# Altium integrated library Analog Devices Power Management Multi-Output Regulators.IntLib: 30 symbols (part 1 of 3)
Pins are listed as number, name and electrical type; pins without a type are passive.

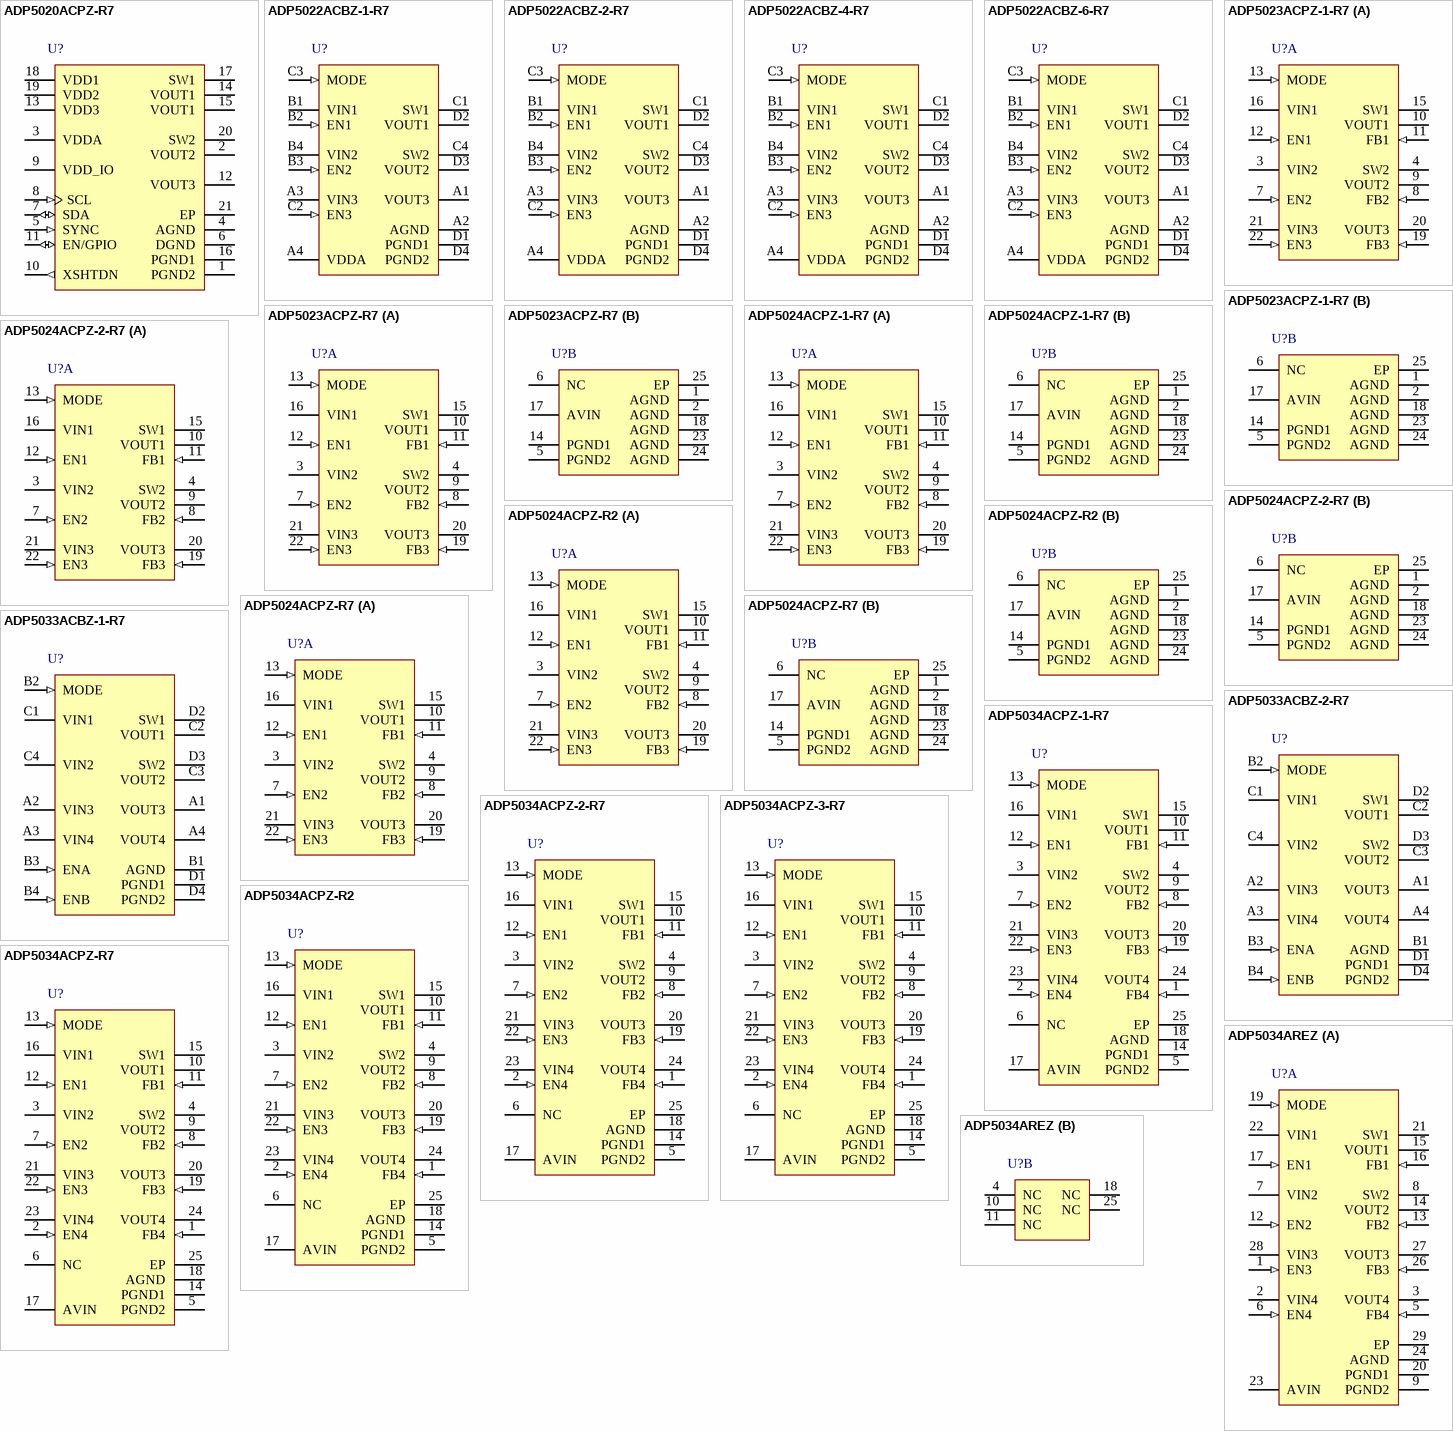
[diagram p0: symbols ADP5020ACPZ-R7 to ADP5034AREZ]

## ADP5020ACPZ-R7
designator U?
Power Management Unit for Imaging Module, 2.4 to 5.5 V Vin, 1.8 to 3.3 V Vout, Industrial, 20-pin QFN (CP-20-4), Reel; Manufacturer: Analog Devices; PartNumber: ADP5020ACPZ-R7; Interface: I2C; Output Current (mA): 150; Number of Outputs: 3; Vin (max) (V): 5.5; Vin (min) (V): 2.4; DatasheetVersion: Rev. 0; PackageVersion: 012508-B; PackageReference: CP-20-4; PackageDescription: 20-Pin Lead Frame Chip Scale Package, Body 4 x 4 mm, Pitch 0.5 mm; Supplier 1: Digi-Key; Supplier Part Number 1: ADP5020ACPZ-R7TR-ND; Supplier 2: Digi-Key; Supplier Part Number 2: ADP5020ACPZ-R7CT-ND; Supplier 3: Digi-Key; Supplier Part Number 3: ADP5020ACPZ-R7DKR-ND; Supplier 4: Farnell; Supplier Part Number 4: 1827316; Supplier 5: Newark; Supplier Part Number 5: 11R0936; Supplier 6: Mouser; Supplier Part Number 6: 584-ADP5020ACPZ-R7; Packing: Reel; Mounting Technology: Surface Mount; Code_JEDEC: MO-220-VGGD-1; ComponentLink1Description: Manufacturer URL; ComponentLink1URL: http://www.analog.com/en/index.html; ComponentLink2Description: Datasheet; ComponentLink2URL: http://www.analog.com/static/imported-files/data_sheets/ADP5020.pdf; ComponentLink3Description: Package Specification; ComponentLink3URL: http://www.analog.com/static/imported-files/packages/PKG_PDF/LFCSP(CP)/CP_20_4.pdf; ComponentLink4Description: URL Link1; ComponentLink4URL: Product URL:http://www.analog.com/en/ADP5020/productSearch.html
footprint ADI-CP-20-4_N (QFN, 20-Leads, Body 4x4mm, Pitch 0.5mm, Thermal Pad 2.5x2.5mm, IPC Medium Density)
footprint ADI-CP-20-4_L (QFN, 20-Leads, Body 4x4mm, Pitch 0.5mm, Thermal Pad 2.5x2.5mm, IPC High Density)
footprint ADI-CP-20-4_M (QFN, 20-Leads, Body 4x4mm, Pitch 0.5mm, Thermal Pad 2.5x2.5mm, IPC Low Density)
pins: 1 PGND2 (power) "Power Ground Buck 2.", 2 VOUT2 "Feedback Buck 2.", 3 VDDA (power) "Supply Voltage Internal Analog Circuit.", 4 AGND (power) "Analog Ground.", 5 SYNC (in) "Frequency Synchronization. Connect to an external 19.2 MHz or 9.6 MHz clock signal to synchronize the internal oscillator.", 6 DGND (power) "Digital Ground.", 7 SDA (io) "I2C Data.", 8 SCL (in) "I2C Clock.", 9 VDD_IO (power) "Supply Voltage for Internal Logic Inputs/Outputs.", 10 XSHTDN (out) "Shutdown Output, Active Low.", 11 EN/GPIO (io) "After power-on reset, this pin is defined as enable (EN). To enable active high, the I2C command can program this pin to be an output (GPIO). A weak pull-down resistor is enabled when the pin operates as EN.", 12 VOUT3 (power) "Regulated Output Voltage from LDO.", 13 VDD3 (power) "Supply Voltage LDO.", 14 VOUT1 "Feedback/Driver Buck 1 Output.", 15 VOUT1 "Feedback/Driver Buck 1 Output.", 16 PGND1 (power) "Power Ground Buck 1.", 17 SW1 (power) "Switch Pin Buck 1.", 18 VDD1 (power) "Supply Voltage Buck 1.", 19 VDD2 (power) "Supply Voltage Buck 2.", 20 SW2 (power) "Switch Pin Buck 2.", 21 EP (power) "Exposed pad should be connected to PGND1 and PGND2."

## ADP5022ACBZ-1-R7
designator U?
Dual 3 MHz, 600 mA Buck Regulator with 150 mA LDO, 2.4 to 5.5 V Vin, 1.5; 1.8; 3.3 V Vout, Industrial, 16-pin BGA (CB-16-7), Reel; Manufacturer: Analog Devices; PartNumber: ADP5022ACBZ-1-R7; Interface: GPIO; Output Current (mA): 150; Number of Outputs: 3; Vin (max) (V): 5.5; Vin (min) (V): 2.4; DatasheetVersion: Rev. C; PackageVersion: 013009-B, 06/2009; PackageReference: CB-16-7; PackageDescription: 16-Ball Wafer Level Chip Scale Package, Body 2.08 x 2.08 mm, Pitch 0.5 mm; Supplier 1: Digi-Key; Supplier Part Number 1: ADP5022ACBZ-1-R7TR-ND; Supplier 2: Digi-Key; Supplier Part Number 2: ADP5022ACBZ-1-R7CT-ND; Supplier 3: Digi-Key; Supplier Part Number 3: ADP5022ACBZ-1-R7DKR-ND; Supplier 4: Farnell; Supplier Part Number 4: 1827317; Supplier 5: Mouser; Supplier Part Number 5: 584-ADP5022ACBZ-1-R7; Packing: Reel; Vout Preset (V): 1.5; 1.8; 3.3; Mounting Technology: Surface Mount; ComponentLink1Description: Manufacturer URL; ComponentLink1URL: http://www.analog.com/en/index.html; ComponentLink2Description: Datasheet; ComponentLink2URL: http://www.analog.com/static/imported-files/data_sheets/ADP5022.pdf; ComponentLink3Description: Package Specification; ComponentLink3URL: http:/www.analog.com/static/imported-files/packages/PKG_PDF/WLCSP(CB)/CB_16_7.pdf; ComponentLink4Description: URL Link1; ComponentLink4URL: Product URL:http://www.analog.com/en/ADP5022/productSearch.html
footprint ADI-CB-16-7 (BGA, 16-Balls, Body 2.08x2.08mm, Pitch 0.5mm)
pins: A1 VOUT3 (power) "LDO Output Voltage and Sensing Input.", A2 AGND (power) "Analog Ground.", A3 VIN3 (power) "LDO Input Supply (VIN3 =< VIN1 = VIN2 = VDDA).", A4 VDDA (power) "Supply Input for the Housekeeping Block and UVLO Sensing.", B1 VIN1 (power) "Buck1 Input Supply (VIN1 = VIN2 = VDDA).", B2 EN1 (in) "Buck1 Activation. Set EN1 = high: turn on Buck1. Set EN1 = low: turn off Buck1.", B3 EN2 (in) "Buck2 Activation. Set EN2 = high: turn on Buck2. Set EN2 = low: turn off Buck2.", B4 VIN2 (power) "Buck2 Input Supply (VIN2 = VIN1 = VDDA).", C1 SW1 (power) "Buck1 Switching Node.", C2 EN3 (in) "LDO Activation. Set EN3 = high: turn on LDO. EN3 = low: turn off LDO.", C3 MODE (in) "Buck1/Buck2 Operating Mode: MODE = high: forced PWM operation. MODE = low: auto PWM/PSM operation.", C4 SW2 (power) "Buck2 Switching Node.", D1 PGND1 (power) "Dedicated Power Ground for Buck1.", D2 VOUT1 "Buck1 Output Voltage Sensing Input.", D3 VOUT2 "Buck2 Output Voltage Sensing Input.", D4 PGND2 (power) "Dedicated Power Ground for Buck2."

## ADP5022ACBZ-2-R7
designator U?
Dual 3 MHz, 600 mA Buck Regulator with 150 mA LDO, 2.4 to 5.5 V Vin, 1.2; 1.8; 2.8 V Vout, Industrial, 16-pin BGA (CB-16-7), Reel; Manufacturer: Analog Devices; PartNumber: ADP5022ACBZ-2-R7; Interface: GPIO; Output Current (mA): 150; Number of Outputs: 3; Vin (max) (V): 5.5; Vin (min) (V): 2.4; DatasheetVersion: Rev. C; PackageVersion: 013009-B, 06/2009; PackageReference: CB-16-7; PackageDescription: 16-Ball Wafer Level Chip Scale Package, Body 2.08 x 2.08 mm, Pitch 0.5 mm; Supplier 1: Digi-Key; Supplier Part Number 1: ADP5022ACBZ-2-R7TR-ND; Supplier 2: Digi-Key; Supplier Part Number 2: ADP5022ACBZ-2-R7CT-ND; Supplier 3: Digi-Key; Supplier Part Number 3: ADP5022ACBZ-2-R7DKR-ND; Supplier 4: Mouser; Supplier Part Number 4: 584-ADP5022ACBZ-2-R7; Packing: Reel; Vout Preset (V): 1.2; 1.8; 2.8; Mounting Technology: Surface Mount; ComponentLink1Description: Manufacturer URL; ComponentLink1URL: http://www.analog.com/en/index.html; ComponentLink2Description: Datasheet; ComponentLink2URL: http://www.analog.com/static/imported-files/data_sheets/ADP5022.pdf; ComponentLink3Description: Package Specification; ComponentLink3URL: http:/www.analog.com/static/imported-files/packages/PKG_PDF/WLCSP(CB)/CB_16_7.pdf; ComponentLink4Description: URL Link1; ComponentLink4URL: Product URL:http://www.analog.com/en/ADP5022/productSearch.html
footprint ADI-CB-16-7 (BGA, 16-Balls, Body 2.08x2.08mm, Pitch 0.5mm)
pins: A1 VOUT3 (power) "LDO Output Voltage and Sensing Input.", A2 AGND (power) "Analog Ground.", A3 VIN3 (power) "LDO Input Supply (VIN3 =< VIN1 = VIN2 = VDDA).", A4 VDDA (power) "Supply Input for the Housekeeping Block and UVLO Sensing.", B1 VIN1 (power) "Buck1 Input Supply (VIN1 = VIN2 = VDDA).", B2 EN1 (in) "Buck1 Activation. Set EN1 = high: turn on Buck1. Set EN1 = low: turn off Buck1.", B3 EN2 (in) "Buck2 Activation. Set EN2 = high: turn on Buck2. Set EN2 = low: turn off Buck2.", B4 VIN2 (power) "Buck2 Input Supply (VIN2 = VIN1 = VDDA).", C1 SW1 (power) "Buck1 Switching Node.", C2 EN3 (in) "LDO Activation. Set EN3 = high: turn on LDO. EN3 = low: turn off LDO.", C3 MODE (in) "Buck1/Buck2 Operating Mode: MODE = high: forced PWM operation. MODE = low: auto PWM/PSM operation.", C4 SW2 (power) "Buck2 Switching Node.", D1 PGND1 (power) "Dedicated Power Ground for Buck1.", D2 VOUT1 "Buck1 Output Voltage Sensing Input.", D3 VOUT2 "Buck2 Output Voltage Sensing Input.", D4 PGND2 (power) "Dedicated Power Ground for Buck2."

## ADP5022ACBZ-4-R7
designator U?
Dual 3 MHz, 600 mA Buck Regulator with 150 mA LDO, 2.4 to 5.5 V Vin, 1.8; 3.3 V Vout, Industrial, 16-pin BGA (CB-16-7), Reel; Manufacturer: Analog Devices; PartNumber: ADP5022ACBZ-4-R7; Interface: GPIO; Output Current (mA): 150; Number of Outputs: 3; Vin (max) (V): 5.5; Vin (min) (V): 2.4; Vout Preset (V): 1.8; 3.3; 3.3; DatasheetVersion: Rev. C; PackageVersion: 013009-B, 06/2009; PackageReference: CB-16-7; PackageDescription: 16-Ball Wafer Level Chip Scale Package, Body 2.08 x 2.08 mm, Pitch 0.5 mm; Supplier 1: Digi-Key; Supplier Part Number 1: ADP5022ACBZ-4-R7TR-ND; Supplier 2: Digi-Key; Supplier Part Number 2: ADP5022ACBZ-4-R7CT-ND; Supplier 3: Digi-Key; Supplier Part Number 3: ADP5022ACBZ-4-R7DKR-ND; Supplier 4: Farnell; Supplier Part Number 4: 1827318; Supplier 5: Newark; Supplier Part Number 5: 08R6640; Supplier 6: Mouser; Supplier Part Number 6: 584-ADP5022ACBZ-4-R7; Packing: Reel; Mounting Technology: Surface Mount; ComponentLink1Description: Manufacturer URL; ComponentLink1URL: http://www.analog.com/en/index.html; ComponentLink2Description: Datasheet; ComponentLink2URL: http://www.analog.com/static/imported-files/data_sheets/ADP5022.pdf; ComponentLink3Description: Package Specification; ComponentLink3URL: http:/www.analog.com/static/imported-files/packages/PKG_PDF/WLCSP(CB)/CB_16_7.pdf; ComponentLink4Description: URL Link1; ComponentLink4URL: Product URL:http://www.analog.com/en/ADP5022/productSearch.html
footprint ADI-CB-16-7 (BGA, 16-Balls, Body 2.08x2.08mm, Pitch 0.5mm)
pins: A1 VOUT3 (power) "LDO Output Voltage and Sensing Input.", A2 AGND (power) "Analog Ground.", A3 VIN3 (power) "LDO Input Supply (VIN3 =< VIN1 = VIN2 = VDDA).", A4 VDDA (power) "Supply Input for the Housekeeping Block and UVLO Sensing.", B1 VIN1 (power) "Buck1 Input Supply (VIN1 = VIN2 = VDDA).", B2 EN1 (in) "Buck1 Activation. Set EN1 = high: turn on Buck1. Set EN1 = low: turn off Buck1.", B3 EN2 (in) "Buck2 Activation. Set EN2 = high: turn on Buck2. Set EN2 = low: turn off Buck2.", B4 VIN2 (power) "Buck2 Input Supply (VIN2 = VIN1 = VDDA).", C1 SW1 (power) "Buck1 Switching Node.", C2 EN3 (in) "LDO Activation. Set EN3 = high: turn on LDO. EN3 = low: turn off LDO.", C3 MODE (in) "Buck1/Buck2 Operating Mode: MODE = high: forced PWM operation. MODE = low: auto PWM/PSM operation.", C4 SW2 (power) "Buck2 Switching Node.", D1 PGND1 (power) "Dedicated Power Ground for Buck1.", D2 VOUT1 "Buck1 Output Voltage Sensing Input.", D3 VOUT2 "Buck2 Output Voltage Sensing Input.", D4 PGND2 (power) "Dedicated Power Ground for Buck2."

## ADP5022ACBZ-6-R7
designator U?
Dual 3 MHz, 600 mA Buck Regulator with 150 mA LDO, 2.4 to 5.5 V Vin, 1.0; 1.8; 2.5 V Vout, Industrial, 16-pin BGA (CB-16-7), Reel; Manufacturer: Analog Devices; PartNumber: ADP5022ACBZ-6-R7; Interface: GPIO; Output Current (mA): 150; Number of Outputs: 3; Vin (max) (V): 5.5; Vin (min) (V): 2.4; DatasheetVersion: Rev. C; PackageVersion: 013009-B, 06/2009; PackageReference: CB-16-7; PackageDescription: 16-Ball Wafer Level Chip Scale Package, Body 2.08 x 2.08 mm, Pitch 0.5 mm; Supplier 1: Digi-Key; Supplier Part Number 1: ADP5022ACBZ-6-R7TR-ND; Supplier 2: Digi-Key; Supplier Part Number 2: ADP5022ACBZ-6-R7CT-ND; Supplier 3: Digi-Key; Supplier Part Number 3: ADP5022ACBZ-6-R7DKR-ND; Supplier 4: Mouser; Supplier Part Number 4: 584-ADP5022ACBZ-6-R7; Packing: Reel; Vout Preset (V): 1.0; 1.8; 2.5; Mounting Technology: Surface Mount; ComponentLink1Description: Manufacturer URL; ComponentLink1URL: http://www.analog.com/en/index.html; ComponentLink2Description: Datasheet; ComponentLink2URL: http://www.analog.com/static/imported-files/data_sheets/ADP5022.pdf; ComponentLink3Description: Package Specification; ComponentLink3URL: http:/www.analog.com/static/imported-files/packages/PKG_PDF/WLCSP(CB)/CB_16_7.pdf; ComponentLink4Description: URL Link1; ComponentLink4URL: Product URL:http://www.analog.com/en/ADP5022/productSearch.html
footprint ADI-CB-16-7 (BGA, 16-Balls, Body 2.08x2.08mm, Pitch 0.5mm)
pins: A1 VOUT3 (power) "LDO Output Voltage and Sensing Input.", A2 AGND (power) "Analog Ground.", A3 VIN3 (power) "LDO Input Supply (VIN3 =< VIN1 = VIN2 = VDDA).", A4 VDDA (power) "Supply Input for the Housekeeping Block and UVLO Sensing.", B1 VIN1 (power) "Buck1 Input Supply (VIN1 = VIN2 = VDDA).", B2 EN1 (in) "Buck1 Activation. Set EN1 = high: turn on Buck1. Set EN1 = low: turn off Buck1.", B3 EN2 (in) "Buck2 Activation. Set EN2 = high: turn on Buck2. Set EN2 = low: turn off Buck2.", B4 VIN2 (power) "Buck2 Input Supply (VIN2 = VIN1 = VDDA).", C1 SW1 (power) "Buck1 Switching Node.", C2 EN3 (in) "LDO Activation. Set EN3 = high: turn on LDO. EN3 = low: turn off LDO.", C3 MODE (in) "Buck1/Buck2 Operating Mode: MODE = high: forced PWM operation. MODE = low: auto PWM/PSM operation.", C4 SW2 (power) "Buck2 Switching Node.", D1 PGND1 (power) "Dedicated Power Ground for Buck1.", D2 VOUT1 "Buck1 Output Voltage Sensing Input.", D3 VOUT2 "Buck2 Output Voltage Sensing Input.", D4 PGND2 (power) "Dedicated Power Ground for Buck2."

## ADP5023ACPZ-1-R7
designator U?
Dual 3 MHz, 800 mA Buck Regulator with One 300 mA LDO, 2.3 to 5.5 V Vin, 1.2; 2.8; 3.3 V Vout, Industrial, 24-pin QFN (CP-24-10), Reel; Manufacturer: Analog Devices; PartNumber: ADP5023ACPZ-1-R7; Output Current (mA): 300; Number of Outputs: 3; Vin (max) (V): 5.5; Vin (min) (V): 2.3; DatasheetVersion: Rev. B; PackageVersion: 0; PackageReference: CP-24-10; PackageDescription: 24-Pin Lead Frame Chip Scale Package, Body 4 x 4 mm, Pitch 0.5 mm; Supplier 1: Digi-Key; Supplier Part Number 1: ADP5023ACPZ-1-R7-ND; Supplier 2: Mouser; Supplier Part Number 2: 584-ADP5023ACPZ-1-R7; Packing: Reel; Vout Preset (V): 1.2; 2.8; 3.3; Mounting Technology: Surface Mount; Code_JEDEC: MO-220-WGGD-8; ComponentLink1Description: Manufacturer URL; ComponentLink1URL: http://www.analog.com/en/index.html; ComponentLink2Description: Datasheet; ComponentLink2URL: http://www.analog.com/static/imported-files/data_sheets/ADP5023.pdf; ComponentLink3Description: Package Specification; ComponentLink3URL: http://www.analog.com/static/imported-files/packages/PKG_PDF/LFCSP(CP)/CP_24_10.pdf; ComponentLink4Description: URL Link1; ComponentLink4URL: Product URL:http://www.analog.com/en/ADP5023/productSearch.html
footprint ADI-CP-24-10_N (QFN, 24-Leads, Body 4x4mm, Pitch 0.5mm, Thermal Pad 2.1x2.1mm, IPC Medium Density)
footprint ADI-CP-24-10_L (QFN, 24-Leads, Body 4x4mm, Pitch 0.5mm, Thermal Pad 2.1x2.1mm, IPC High Density)
footprint ADI-CP-24-10_M (QFN, 24-Leads, Body 4x4mm, Pitch 0.5mm, Thermal Pad 2.1x2.1mm, IPC Low Density)
part A pins: 3 VIN2 (power) "BUCK2 Input Supply (2.3 V to 5.5 V). Connect VIN2 to VIN1 and AVIN.", 4 SW2 (power) "BUCK2 Switching Node.", 7 EN2 (in) "BUCK2 Enable Pin. High level turns on this regulator, and low level turns it off.", 8 FB2 (in) "BUCK2 Feedback Input. For device models with adjustable output voltage, connect this pin to the middle of the BUCK2 resistor divider. For device models with fixed output voltage, leave this pin unconnected.", 9 VOUT2 "BUCK2 Output Voltage Sensing Input. Connect VOUT2 to the top of the capacitor on VOUT2.", 10 VOUT1 "BUCK1 Output Voltage Sensing Input. Connect VOUT1 to the top of the capacitor on VOUT1.", 11 FB1 (in) "BUCK1 Feedback Input. For device models with adjustable output voltage, connect this pin to the middle of the BUCK1 resistor divider. For device models with fixed output voltage, connect this pin to the top of the capacitor (See Datasheet)", 12 EN1 (in) "BUCK1 Enable Pin. High level turns on this regulator, and low level turns it off.", 13 MODE (in) "BUCK1/BUCK2 Operating Mode. MODE = high: forced PWM operation. MODE = low: auto PWM/PSM operation.", 15 SW1 (power) "BUCK1 Switching Node", 16 VIN1 (power) "BUCK1 Input Supply (2.3 V to 5.5 V). Connect VIN1 to VIN2 and AVIN.", 19 FB3 (in) "LDO Feedback Input. For device models with adjustable output voltage, connect this pin to the middle of the LDO resistor divider. For device models with fixed output voltage, leave this pin unconnected.", 20 VOUT3 (power) "LDO Output Voltage.", 21 VIN3 (power) "LDO Input Supply (1.7 V to 5.5 V).", 22 EN3 (in) "LDO Enable Pin. High level turns on this regulator, and low level turns it off."
part B pins: 1 AGND (power) "Analog Ground.", 2 AGND (power) "Analog Ground.", 5 PGND2 (power) "Dedicated Power Ground for BUCK2.", 6 NC "No Connect. Leave this pin unconnected.", 14 PGND1 (power) "Dedicated Power Ground for BUCK1.", 17 AVIN (power) "Analog Input Supply (2.3 V to 5.5 V). Connect AVIN to VIN1 and VIN2.", 18 AGND (power) "Analog Ground.", 23 AGND (power) "Analog Ground.", 24 AGND (power) "Analog Ground.", 25 EP (power) "Exposed Pad. It is recommended that the exposed pad be soldered to the ground plane."

## ADP5023ACPZ-R7
designator U?
Dual 3 MHz, 800 mA Buck Regulator with One 300 mA LDO, 2.3 to 5.5 V Vin, Adjustable Vout, Industrial, 24-pin QFN (CP-24-10), Reel; Manufacturer: Analog Devices; PartNumber: ADP5023ACPZ-R7; Output Current (mA): 300; Number of Outputs: 3; Vin (max) (V): 5.5; Vin (min) (V): 2.3; DatasheetVersion: Rev. B; PackageVersion: 0; PackageReference: CP-24-10; PackageDescription: 24-Pin Lead Frame Chip Scale Package, Body 4 x 4 mm, Pitch 0.5 mm; Supplier 1: Digi-Key; Supplier Part Number 1: ADP5023ACPZ-R7TR-ND; Supplier 2: Digi-Key; Supplier Part Number 2: ADP5023ACPZ-R7CT-ND; Supplier 3: Digi-Key; Supplier Part Number 3: ADP5023ACPZ-R7DKR-ND; Supplier 4: Farnell; Supplier Part Number 4: 2061737; Supplier 5: Newark; Supplier Part Number 5: 63T8585; Supplier 6: Newark; Supplier Part Number 6: 65T6081; Supplier 7: Newark; Supplier Part Number 7: 65T4792; Supplier 8: Mouser; Supplier Part Number 8: 584-ADP5023ACPZ-R7; Packing: Reel; Mounting Technology: Surface Mount; Code_JEDEC: MO-220-WGGD-8; ComponentLink1Description: Manufacturer URL; ComponentLink1URL: http://www.analog.com/en/index.html; ComponentLink2Description: Datasheet; ComponentLink2URL: http://www.analog.com/static/imported-files/data_sheets/ADP5023.pdf; ComponentLink3Description: Package Specification; ComponentLink3URL: http://www.analog.com/static/imported-files/packages/PKG_PDF/LFCSP(CP)/CP_24_10.pdf; ComponentLink4Description: URL Link1; ComponentLink4URL: Product URL:http://www.analog.com/en/ADP5023/productSearch.html
footprint ADI-CP-24-10_N (QFN, 24-Leads, Body 4x4mm, Pitch 0.5mm, Thermal Pad 2.1x2.1mm, IPC Medium Density)
footprint ADI-CP-24-10_L (QFN, 24-Leads, Body 4x4mm, Pitch 0.5mm, Thermal Pad 2.1x2.1mm, IPC High Density)
footprint ADI-CP-24-10_M (QFN, 24-Leads, Body 4x4mm, Pitch 0.5mm, Thermal Pad 2.1x2.1mm, IPC Low Density)
part A pins: 3 VIN2 (power) "BUCK2 Input Supply (2.3 V to 5.5 V). Connect VIN2 to VIN1 and AVIN.", 4 SW2 (power) "BUCK2 Switching Node.", 7 EN2 (in) "BUCK2 Enable Pin. High level turns on this regulator, and low level turns it off.", 8 FB2 (in) "BUCK2 Feedback Input. For device models with adjustable output voltage, connect this pin to the middle of the BUCK2 resistor divider. For device models with fixed output voltage, leave this pin unconnected.", 9 VOUT2 "BUCK2 Output Voltage Sensing Input. Connect VOUT2 to the top of the capacitor on VOUT2.", 10 VOUT1 "BUCK1 Output Voltage Sensing Input. Connect VOUT1 to the top of the capacitor on VOUT1.", 11 FB1 (in) "BUCK1 Feedback Input. For device models with adjustable output voltage, connect this pin to the middle of the BUCK1 resistor divider. For device models with fixed output voltage, connect this pin to the top of the capacitor (See Datasheet)", 12 EN1 (in) "BUCK1 Enable Pin. High level turns on this regulator, and low level turns it off.", 13 MODE (in) "BUCK1/BUCK2 Operating Mode. MODE = high: forced PWM operation. MODE = low: auto PWM/PSM operation.", 15 SW1 (power) "BUCK1 Switching Node", 16 VIN1 (power) "BUCK1 Input Supply (2.3 V to 5.5 V). Connect VIN1 to VIN2 and AVIN.", 19 FB3 (in) "LDO Feedback Input. For device models with adjustable output voltage, connect this pin to the middle of the LDO resistor divider. For device models with fixed output voltage, leave this pin unconnected.", 20 VOUT3 (power) "LDO Output Voltage.", 21 VIN3 (power) "LDO Input Supply (1.7 V to 5.5 V).", 22 EN3 (in) "LDO Enable Pin. High level turns on this regulator, and low level turns it off."
part B pins: 1 AGND (power) "Analog Ground.", 2 AGND (power) "Analog Ground.", 5 PGND2 (power) "Dedicated Power Ground for BUCK2.", 6 NC "No Connect. Leave this pin unconnected.", 14 PGND1 (power) "Dedicated Power Ground for BUCK1.", 17 AVIN (power) "Analog Input Supply (2.3 V to 5.5 V). Connect AVIN to VIN1 and VIN2.", 18 AGND (power) "Analog Ground.", 23 AGND (power) "Analog Ground.", 24 AGND (power) "Analog Ground.", 25 EP (power) "Exposed Pad. It is recommended that the exposed pad be soldered to the ground plane."

## ADP5024ACPZ-1-R7
designator U?
Dual 3 MHz, 1200 mA Buck Regulator with One 300 mA LDO, 2.3 to 5.5 V Vin, 1.2; 2.8; 3.3 V Vout, Industrial, 24-pin QFN (CP-24-10), Reel; Manufacturer: Analog Devices; PartNumber: ADP5024ACPZ-1-R7; Output Current (mA): 300; Number of Outputs: 3; Vin (max) (V): 5.5; Vin (min) (V): 2.3; DatasheetVersion: Rev. C; PackageVersion: 0; PackageReference: CP-24-10; PackageDescription: 24-Pin Lead Frame Chip Scale Package, Body 4 x 4 mm, Pitch 0.5 mm; Supplier 1: Digi-Key; Supplier Part Number 1: ADP5024ACPZ-1-R7TR-ND; Supplier 2: Digi-Key; Supplier Part Number 2: ADP5024ACPZ-1-R7CT-ND; Supplier 3: Digi-Key; Supplier Part Number 3: ADP5024ACPZ-1-R7DKR-ND; Supplier 4: Farnell; Supplier Part Number 4: 2213584; Supplier 5: Newark; Supplier Part Number 5: 46W0847; Supplier 6: Newark; Supplier Part Number 6: 45W6188; Supplier 7: Newark; Supplier Part Number 7: 43W5488; Supplier 8: Mouser; Supplier Part Number 8: 584-ADP5024ACPZ-1-R7; Packing: Reel; Vout Preset (V): 1.2; 2.8; 3.3; Mounting Technology: Surface Mount; Code_JEDEC: MO-220-WGGD-8; ComponentLink1Description: Manufacturer URL; ComponentLink1URL: http://www.analog.com/en/index.html; ComponentLink2Description: Datasheet; ComponentLink2URL: http://www.analog.com/static/imported-files/data_sheets/ADP5024.pdf; ComponentLink3Description: Package Specification; ComponentLink3URL: http://www.analog.com/static/imported-files/packages/PKG_PDF/LFCSP(CP)/CP_24_10.pdf; ComponentLink4Description: URL Link1; ComponentLink4URL: Product URL:http://www.analog.com/en/ADP5024/productSearch.html
footprint ADI-CP-24-10_N (QFN, 24-Leads, Body 4x4mm, Pitch 0.5mm, Thermal Pad 2.1x2.1mm, IPC Medium Density)
footprint ADI-CP-24-10_L (QFN, 24-Leads, Body 4x4mm, Pitch 0.5mm, Thermal Pad 2.1x2.1mm, IPC High Density)
footprint ADI-CP-24-10_M (QFN, 24-Leads, Body 4x4mm, Pitch 0.5mm, Thermal Pad 2.1x2.1mm, IPC Low Density)
part A pins: 3 VIN2 (power) "BUCK2 Input Supply (2.3 V to 5.5 V). Connect VIN2 to VIN1 and AVIN.", 4 SW2 (power) "BUCK2 Switching Node.", 7 EN2 (in) "BUCK2 Enable Pin. High level turns on this regulator, and low level turns it off.", 8 FB2 (in) "BUCK2 Feedback Input. For device models with an adjustable output voltage, connect this pin to the middle of the BUCK2 resistor divider. For device models with a fixed output voltage, leave this pin unconnected.", 9 VOUT2 "BUCK2 Output Voltage Sensing Input. Connect VOUT2 to the top of the capacitor on VOUT2.", 10 VOUT1 "BUCK1 Output Voltage Sensing Input. Connect VOUT1 to the top of the capacitor on VOUT1.", 11 FB1 (in) "BUCK1 Feedback Input. For device models with an adjustable output voltage, connect this pin to the middle of the BUCK1 resistor divider. For device models with a fixed output voltage, leave this pin unconnected.", 12 EN1 (in) "BUCK1 Enable Pin. High level turns on this regulator, and low level turns it off.", 13 MODE (in) "BUCK1/BUCK2 Operating Mode. MODE = high for forced PWM operation. MODE = low for automatic PWM/PSM operation.", 15 SW1 (power) "BUCK1 Switching Node.", 16 VIN1 (power) "BUCK1 Input Supply (2.3 V to 5.5 V). Connect VIN1 to VIN2 and AVIN.", 19 FB3 (in) "LDO Feedback Input. For device models with an adjustable output voltage, connect this pin to the middle of the LDO resistor divider. For device models with a fixed output voltage, connect this pin to the top of the capacitor (See Datasheet)", 20 VOUT3 (power) "LDO Output Voltage.", 21 VIN3 (power) "LDO Input Supply (1.7 V to 5.5 V).", 22 EN3 (in) "LDO Enable Pin. High level turns on this regulator, and low level turns it off."
part B pins: 1 AGND (power) "Analog Ground.", 2 AGND (power) "Analog Ground.", 5 PGND2 (power) "Dedicated Power Ground for BUCK2.", 6 NC "No Connect. Leave this pin unconnected.", 14 PGND1 (power) "Dedicated Power Ground for BUCK1.", 17 AVIN (power) "Analog Input Supply (2.3 V to 5.5 V). Connect AVIN to VIN1 and VIN2.", 18 AGND (power) "Analog Ground.", 23 AGND (power) "Analog Ground.", 24 AGND (power) "Analog Ground.", 25 EP (power) "Exposed Pad. It is recommended that the exposed pad be soldered to the ground plane."

## ADP5024ACPZ-2-R7
designator U?
Dual 3 MHz, 1200 mA Buck Regulator with One 300 mA LDO, 2.3 to 5.5 V Vin, Industrial, 24-pin QFN (CP-24-10), Reel; Manufacturer: Analog Devices; PartNumber: ADP5024ACPZ-2-R7; Output Current (mA): 300; Number of Outputs: 3; Vin (max) (V): 5.5; Vin (min) (V): 2.3; DatasheetVersion: Rev. C; PackageVersion: 0; PackageReference: CP-24-10; PackageDescription: 24-Pin Lead Frame Chip Scale Package, Body 4 x 4 mm, Pitch 0.5 mm; Supplier 1: Digi-Key; Supplier Part Number 1: ADP5024ACPZ-2-R7-ND; Supplier 2: Newark; Supplier Part Number 2: 69W7672; Supplier 3: Mouser; Supplier Part Number 3: 584-ADP5024ACPZ-2-R7; Packing: Reel; Mounting Technology: Surface Mount; Code_JEDEC: MO-220-WGGD-8; ComponentLink1Description: Manufacturer URL; ComponentLink1URL: http://www.analog.com/en/index.html; ComponentLink2Description: Datasheet; ComponentLink2URL: http://www.analog.com/static/imported-files/data_sheets/ADP5024.pdf; ComponentLink3Description: Package Specification; ComponentLink3URL: http://www.analog.com/static/imported-files/packages/PKG_PDF/LFCSP(CP)/CP_24_10.pdf; ComponentLink4Description: URL Link1; ComponentLink4URL: Product URL:http://www.analog.com/en/ADP5024/productSearch.html
footprint ADI-CP-24-10_N (QFN, 24-Leads, Body 4x4mm, Pitch 0.5mm, Thermal Pad 2.1x2.1mm, IPC Medium Density)
footprint ADI-CP-24-10_L (QFN, 24-Leads, Body 4x4mm, Pitch 0.5mm, Thermal Pad 2.1x2.1mm, IPC High Density)
footprint ADI-CP-24-10_M (QFN, 24-Leads, Body 4x4mm, Pitch 0.5mm, Thermal Pad 2.1x2.1mm, IPC Low Density)
part A pins: 3 VIN2 (power) "BUCK2 Input Supply (2.3 V to 5.5 V). Connect VIN2 to VIN1 and AVIN.", 4 SW2 (power) "BUCK2 Switching Node.", 7 EN2 (in) "BUCK2 Enable Pin. High level turns on this regulator, and low level turns it off.", 8 FB2 (in) "BUCK2 Feedback Input. For device models with an adjustable output voltage, connect this pin to the middle of the BUCK2 resistor divider. For device models with a fixed output voltage, leave this pin unconnected.", 9 VOUT2 "BUCK2 Output Voltage Sensing Input. Connect VOUT2 to the top of the capacitor on VOUT2.", 10 VOUT1 "BUCK1 Output Voltage Sensing Input. Connect VOUT1 to the top of the capacitor on VOUT1.", 11 FB1 (in) "BUCK1 Feedback Input. For device models with an adjustable output voltage, connect this pin to the middle of the BUCK1 resistor divider. For device models with a fixed output voltage, leave this pin unconnected.", 12 EN1 (in) "BUCK1 Enable Pin. High level turns on this regulator, and low level turns it off.", 13 MODE (in) "BUCK1/BUCK2 Operating Mode. MODE = high for forced PWM operation. MODE = low for automatic PWM/PSM operation.", 15 SW1 (power) "BUCK1 Switching Node.", 16 VIN1 (power) "BUCK1 Input Supply (2.3 V to 5.5 V). Connect VIN1 to VIN2 and AVIN.", 19 FB3 (in) "LDO Feedback Input. For device models with an adjustable output voltage, connect this pin to the middle of the LDO resistor divider. For device models with a fixed output voltage, connect this pin to the top of the capacitor (See Datasheet)", 20 VOUT3 (power) "LDO Output Voltage.", 21 VIN3 (power) "LDO Input Supply (1.7 V to 5.5 V).", 22 EN3 (in) "LDO Enable Pin. High level turns on this regulator, and low level turns it off."
part B pins: 1 AGND (power) "Analog Ground.", 2 AGND (power) "Analog Ground.", 5 PGND2 (power) "Dedicated Power Ground for BUCK2.", 6 NC "No Connect. Leave this pin unconnected.", 14 PGND1 (power) "Dedicated Power Ground for BUCK1.", 17 AVIN (power) "Analog Input Supply (2.3 V to 5.5 V). Connect AVIN to VIN1 and VIN2.", 18 AGND (power) "Analog Ground.", 23 AGND (power) "Analog Ground.", 24 AGND (power) "Analog Ground.", 25 EP (power) "Exposed Pad. It is recommended that the exposed pad be soldered to the ground plane."

## ADP5024ACPZ-R2
designator U?
Dual 3 MHz, 1200 mA Buck Regulator with One 300 mA LDO, 2.3 to 5.5 V Vin, Adjustable Vout, Industrial, 24-pin QFN (CP-24-10), Reel; Manufacturer: Analog Devices; PartNumber: ADP5024ACPZ-R2; Output Current (mA): 300; Number of Outputs: 3; Vin (max) (V): 5.5; Vin (min) (V): 2.3; DatasheetVersion: Rev. C; PackageVersion: 0; PackageReference: CP-24-10; PackageDescription: 24-Pin Lead Frame Chip Scale Package, Body 4 x 4 mm, Pitch 0.5 mm; Supplier 1: Digi-Key; Supplier Part Number 1: ADP5024ACPZ-R2-ND; Supplier 2: Mouser; Supplier Part Number 2: 584-ADP5024ACPZ-R2; Packing: Reel; Mounting Technology: Surface Mount; Code_JEDEC: MO-220-WGGD-8; ComponentLink1Description: Manufacturer URL; ComponentLink1URL: http://www.analog.com/en/index.html; ComponentLink2Description: Datasheet; ComponentLink2URL: http://www.analog.com/static/imported-files/data_sheets/ADP5024.pdf; ComponentLink3Description: Package Specification; ComponentLink3URL: http://www.analog.com/static/imported-files/packages/PKG_PDF/LFCSP(CP)/CP_24_10.pdf; ComponentLink4Description: URL Link1; ComponentLink4URL: Product URL:http://www.analog.com/en/ADP5024/productSearch.html
footprint ADI-CP-24-10_N (QFN, 24-Leads, Body 4x4mm, Pitch 0.5mm, Thermal Pad 2.1x2.1mm, IPC Medium Density)
footprint ADI-CP-24-10_L (QFN, 24-Leads, Body 4x4mm, Pitch 0.5mm, Thermal Pad 2.1x2.1mm, IPC High Density)
footprint ADI-CP-24-10_M (QFN, 24-Leads, Body 4x4mm, Pitch 0.5mm, Thermal Pad 2.1x2.1mm, IPC Low Density)
part A pins: 3 VIN2 (power) "BUCK2 Input Supply (2.3 V to 5.5 V). Connect VIN2 to VIN1 and AVIN.", 4 SW2 (power) "BUCK2 Switching Node.", 7 EN2 (in) "BUCK2 Enable Pin. High level turns on this regulator, and low level turns it off.", 8 FB2 (in) "BUCK2 Feedback Input. For device models with an adjustable output voltage, connect this pin to the middle of the BUCK2 resistor divider. For device models with a fixed output voltage, leave this pin unconnected.", 9 VOUT2 "BUCK2 Output Voltage Sensing Input. Connect VOUT2 to the top of the capacitor on VOUT2.", 10 VOUT1 "BUCK1 Output Voltage Sensing Input. Connect VOUT1 to the top of the capacitor on VOUT1.", 11 FB1 (in) "BUCK1 Feedback Input. For device models with an adjustable output voltage, connect this pin to the middle of the BUCK1 resistor divider. For device models with a fixed output voltage, leave this pin unconnected.", 12 EN1 (in) "BUCK1 Enable Pin. High level turns on this regulator, and low level turns it off.", 13 MODE (in) "BUCK1/BUCK2 Operating Mode. MODE = high for forced PWM operation. MODE = low for automatic PWM/PSM operation.", 15 SW1 (power) "BUCK1 Switching Node.", 16 VIN1 (power) "BUCK1 Input Supply (2.3 V to 5.5 V). Connect VIN1 to VIN2 and AVIN.", 19 FB3 (in) "LDO Feedback Input. For device models with an adjustable output voltage, connect this pin to the middle of the LDO resistor divider. For device models with a fixed output voltage, connect this pin to the top of the capacitor (See Datasheet)", 20 VOUT3 (power) "LDO Output Voltage.", 21 VIN3 (power) "LDO Input Supply (1.7 V to 5.5 V).", 22 EN3 (in) "LDO Enable Pin. High level turns on this regulator, and low level turns it off."
part B pins: 1 AGND (power) "Analog Ground.", 2 AGND (power) "Analog Ground.", 5 PGND2 (power) "Dedicated Power Ground for BUCK2.", 6 NC "No Connect. Leave this pin unconnected.", 14 PGND1 (power) "Dedicated Power Ground for BUCK1.", 17 AVIN (power) "Analog Input Supply (2.3 V to 5.5 V). Connect AVIN to VIN1 and VIN2.", 18 AGND (power) "Analog Ground.", 23 AGND (power) "Analog Ground.", 24 AGND (power) "Analog Ground.", 25 EP (power) "Exposed Pad. It is recommended that the exposed pad be soldered to the ground plane."

## ADP5024ACPZ-R7
designator U?
Dual 3 MHz, 1200 mA Buck Regulator with One 300 mA LDO, 2.3 to 5.5 V Vin, Adjustable Vout, Industrial, 24-pin QFN (CP-24-10), Reel; Manufacturer: Analog Devices; PartNumber: ADP5024ACPZ-R7; Output Current (mA): 300; Number of Outputs: 3; Vin (max) (V): 5.5; Vin (min) (V): 2.3; DatasheetVersion: Rev. C; PackageVersion: 0; PackageReference: CP-24-10; PackageDescription: 24-Pin Lead Frame Chip Scale Package, Body 4 x 4 mm, Pitch 0.5 mm; Supplier 1: Digi-Key; Supplier Part Number 1: ADP5024ACPZ-R7TR-ND; Supplier 2: Digi-Key; Supplier Part Number 2: ADP5024ACPZ-R7CT-ND; Supplier 3: Digi-Key; Supplier Part Number 3: ADP5024ACPZ-R7DKR-ND; Supplier 4: Mouser; Supplier Part Number 4: 584-ADP5024ACPZ-R7; Packing: Reel; Mounting Technology: Surface Mount; Code_JEDEC: MO-220-WGGD-8; ComponentLink1Description: Manufacturer URL; ComponentLink1URL: http://www.analog.com/en/index.html; ComponentLink2Description: Datasheet; ComponentLink2URL: http://www.analog.com/static/imported-files/data_sheets/ADP5024.pdf; ComponentLink3Description: Package Specification; ComponentLink3URL: http://www.analog.com/static/imported-files/packages/PKG_PDF/LFCSP(CP)/CP_24_10.pdf; ComponentLink4Description: URL Link1; ComponentLink4URL: Product URL:http://www.analog.com/en/ADP5024/productSearch.html
footprint ADI-CP-24-10_N (QFN, 24-Leads, Body 4x4mm, Pitch 0.5mm, Thermal Pad 2.1x2.1mm, IPC Medium Density)
footprint ADI-CP-24-10_L (QFN, 24-Leads, Body 4x4mm, Pitch 0.5mm, Thermal Pad 2.1x2.1mm, IPC High Density)
footprint ADI-CP-24-10_M (QFN, 24-Leads, Body 4x4mm, Pitch 0.5mm, Thermal Pad 2.1x2.1mm, IPC Low Density)
part A pins: 3 VIN2 (power) "BUCK2 Input Supply (2.3 V to 5.5 V). Connect VIN2 to VIN1 and AVIN.", 4 SW2 (power) "BUCK2 Switching Node.", 7 EN2 (in) "BUCK2 Enable Pin. High level turns on this regulator, and low level turns it off.", 8 FB2 (in) "BUCK2 Feedback Input. For device models with an adjustable output voltage, connect this pin to the middle of the BUCK2 resistor divider. For device models with a fixed output voltage, leave this pin unconnected.", 9 VOUT2 "BUCK2 Output Voltage Sensing Input. Connect VOUT2 to the top of the capacitor on VOUT2.", 10 VOUT1 "BUCK1 Output Voltage Sensing Input. Connect VOUT1 to the top of the capacitor on VOUT1.", 11 FB1 (in) "BUCK1 Feedback Input. For device models with an adjustable output voltage, connect this pin to the middle of the BUCK1 resistor divider. For device models with a fixed output voltage, leave this pin unconnected.", 12 EN1 (in) "BUCK1 Enable Pin. High level turns on this regulator, and low level turns it off.", 13 MODE (in) "BUCK1/BUCK2 Operating Mode. MODE = high for forced PWM operation. MODE = low for automatic PWM/PSM operation.", 15 SW1 (power) "BUCK1 Switching Node.", 16 VIN1 (power) "BUCK1 Input Supply (2.3 V to 5.5 V). Connect VIN1 to VIN2 and AVIN.", 19 FB3 (in) "LDO Feedback Input. For device models with an adjustable output voltage, connect this pin to the middle of the LDO resistor divider. For device models with a fixed output voltage, connect this pin to the top of the capacitor (See Datasheet)", 20 VOUT3 (power) "LDO Output Voltage.", 21 VIN3 (power) "LDO Input Supply (1.7 V to 5.5 V).", 22 EN3 (in) "LDO Enable Pin. High level turns on this regulator, and low level turns it off."
part B pins: 1 AGND (power) "Analog Ground.", 2 AGND (power) "Analog Ground.", 5 PGND2 (power) "Dedicated Power Ground for BUCK2.", 6 NC "No Connect. Leave this pin unconnected.", 14 PGND1 (power) "Dedicated Power Ground for BUCK1.", 17 AVIN (power) "Analog Input Supply (2.3 V to 5.5 V). Connect AVIN to VIN1 and VIN2.", 18 AGND (power) "Analog Ground.", 23 AGND (power) "Analog Ground.", 24 AGND (power) "Analog Ground.", 25 EP (power) "Exposed Pad. It is recommended that the exposed pad be soldered to the ground plane."

## ADP5033ACBZ-1-R7
designator U?
Dual 3 MHz, 800 mA Buck Regulator with Two 300 mA LDOs, 2.3 to 5.5 V Vin, 1.2; 1.8; 2.8; 3.3 V Vout, Industrial, 16-pin BGA (CB-16-8), Reel; Manufacturer: Analog Devices; PartNumber: ADP5033ACBZ-1-R7; Interface: GPIO; Output Current (mA): 300; Number of Outputs: 4; Vin (max) (V): 5.5; Vin (min) (V): 2.3; DatasheetVersion: Rev. B; PackageVersion: 061509-A, 06/2009; PackageReference: CB-16-8; PackageDescription: 16-Ball Wafer Level Chip Scale Package, Body 2 x 2 mm, Pitch 0.5 mm; Supplier 1: Digi-Key; Supplier Part Number 1: ADP5033ACBZ-1-R7TR-ND; Supplier 2: Digi-Key; Supplier Part Number 2: ADP5033ACBZ-1-R7CT-ND; Supplier 3: Digi-Key; Supplier Part Number 3: ADP5033ACBZ-1-R7DKR-ND; Supplier 4: Farnell; Supplier Part Number 4: 1944984; Supplier 5: Newark; Supplier Part Number 5: 51T1976; Supplier 6: Newark; Supplier Part Number 6: 55T8415; Supplier 7: Mouser; Supplier Part Number 7: 584-ADP5033ACBZ-1-R7; Packing: Reel; Vout Preset (V): 1.2; 1.8; 2.8; 3.3; Mounting Technology: Surface Mount; ComponentLink1Description: Manufacturer URL; ComponentLink1URL: http://www.analog.com/en/index.html; ComponentLink2Description: Datasheet; ComponentLink2URL: http://www.analog.com/static/imported-files/data_sheets/ADP5033.pdf; ComponentLink3Description: Package Specification; ComponentLink3URL: http:/www.analog.com/static/imported-files/packages/PKG_PDF/WLCSP(CB)/CB_16_8.pdf; ComponentLink4Description: URL Link1; ComponentLink4URL: Product URL:http://www.analog.com/en/ADP5033/productSearch.html
footprint ADI-CB-16-8 (BGA, 16-Balls, Body 2x2mm, Pitch 0.5mm)
pins: A1 VOUT3 (power) "LDO1 Output Voltage and Sensing Input.", A2 VIN3 (power) "LDO1 Input Supply (1.7 V to 5.5 V, VIN4 =< VIN1 = VIN2).", A3 VIN4 (power) "LDO2 Input Supply (1.7 V to 5.5 V, VIN3 =< VIN1 = VIN2).", A4 VOUT4 (power) "LDO2 Output Voltage and Sensing Input.", B1 AGND (power) "Analog Ground.", B2 MODE (in) "BUCK1/BUCK2 Operating Mode. MODE = high: forced PWM operation. MODE = low: auto PWM/PSM operation.", B3 ENA (in) "Regulator Enable Pin A, Active High. The regulators turned on with ENA are factory programmed.", B4 ENB (in) "Regulator Enable Pin B, Active High. The regulators turned on with ENB are factory programmed.", C1 VIN1 (power) "BUCK1 Input Supply (2.3 V to 5.5 V) and UVLO Detection. Connect VIN1 to VIN2.", C2 VOUT1 "BUCK1 Output Voltage Sensing Input.", C3 VOUT2 "BUCK2 Output Voltage Sensing Input.", C4 VIN2 (power) "BUCK2 Input Supply (2.3 V to 5.5 V). Connect VIN2 to VIN1.", D1 PGND1 (power) "Dedicated Power Ground for BUCK1.", D2 SW1 (power) "BUCK1 Switching Node.", D3 SW2 (power) "BUCK2 Switching Node.", D4 PGND2 (power) "Dedicated Power Ground for BUCK2."

## ADP5033ACBZ-2-R7
designator U?
Dual 3 MHz, 800 mA Buck Regulator with Two 300 mA LDOs, 2.3 to 5.5 V Vin, 1.8; 2.8; 3.0 V Vout, Industrial, 16-pin BGA (CB-16-8), Reel; Manufacturer: Analog Devices; PartNumber: ADP5033ACBZ-2-R7; Interface: GPIO; Output Current (mA): 300; Number of Outputs: 4; Vin (max) (V): 5.5; Vin (min) (V): 2.3; Vout Preset (V): 1.8; 2.8; 2.8; 3.0; DatasheetVersion: Rev. B; PackageVersion: 061509-A, 06/2009; PackageReference: CB-16-8; PackageDescription: 16-Ball Wafer Level Chip Scale Package, Body 2 x 2 mm, Pitch 0.5 mm; Supplier 1: Digi-Key; Supplier Part Number 1: ADP5033ACBZ-2-R7TR-ND; Supplier 2: Digi-Key; Supplier Part Number 2: ADP5033ACBZ-2-R7CT-ND; Supplier 3: Digi-Key; Supplier Part Number 3: ADP5033ACBZ-2-R7DKR-ND; Supplier 4: Newark; Supplier Part Number 4: 43W5489; Supplier 5: Mouser; Supplier Part Number 5: 584-ADP5033ACBZ-2-R7; Packing: Reel; Mounting Technology: Surface Mount; ComponentLink1Description: Manufacturer URL; ComponentLink1URL: http://www.analog.com/en/index.html; ComponentLink2Description: Datasheet; ComponentLink2URL: http://www.analog.com/static/imported-files/data_sheets/ADP5033.pdf; ComponentLink3Description: Package Specification; ComponentLink3URL: http:/www.analog.com/static/imported-files/packages/PKG_PDF/WLCSP(CB)/CB_16_8.pdf; ComponentLink4Description: URL Link1; ComponentLink4URL: Product URL:http://www.analog.com/en/ADP5033/productSearch.html
footprint ADI-CB-16-8 (BGA, 16-Balls, Body 2x2mm, Pitch 0.5mm)
pins: A1 VOUT3 (power) "LDO1 Output Voltage and Sensing Input.", A2 VIN3 (power) "LDO1 Input Supply (1.7 V to 5.5 V, VIN4 =< VIN1 = VIN2).", A3 VIN4 (power) "LDO2 Input Supply (1.7 V to 5.5 V, VIN3 =< VIN1 = VIN2).", A4 VOUT4 (power) "LDO2 Output Voltage and Sensing Input.", B1 AGND (power) "Analog Ground.", B2 MODE (in) "BUCK1/BUCK2 Operating Mode. MODE = high: forced PWM operation. MODE = low: auto PWM/PSM operation.", B3 ENA (in) "Regulator Enable Pin A, Active High. The regulators turned on with ENA are factory programmed.", B4 ENB (in) "Regulator Enable Pin B, Active High. The regulators turned on with ENB are factory programmed.", C1 VIN1 (power) "BUCK1 Input Supply (2.3 V to 5.5 V) and UVLO Detection. Connect VIN1 to VIN2.", C2 VOUT1 "BUCK1 Output Voltage Sensing Input.", C3 VOUT2 "BUCK2 Output Voltage Sensing Input.", C4 VIN2 (power) "BUCK2 Input Supply (2.3 V to 5.5 V). Connect VIN2 to VIN1.", D1 PGND1 (power) "Dedicated Power Ground for BUCK1.", D2 SW1 (power) "BUCK1 Switching Node.", D3 SW2 (power) "BUCK2 Switching Node.", D4 PGND2 (power) "Dedicated Power Ground for BUCK2."

## ADP5034ACPZ-1-R7
designator U?
Dual 3 MHz, 1200 mA Buck Regulator with Two 300 mA LDOs, 2.3 to 5.5 V Vin, 1.2; 1.8; 2.8; 3.3 V Vout, Industrial, 24-pin QFN (CP-24-10), Reel; Manufacturer: Analog Devices; PartNumber: ADP5034ACPZ-1-R7; Output Current (mA): 300; Number of Outputs: 4; Vin (max) (V): 5.5; Vin (min) (V): 2.3; DatasheetVersion: Rev. C; PackageVersion: 0; PackageReference: CP-24-10; PackageDescription: 24-Pin Lead Frame Chip Scale Package, Body 4 x 4 mm, Pitch 0.5 mm; Supplier 1: Digi-Key; Supplier Part Number 1: ADP5034ACPZ-1-R7TR-ND; Supplier 2: Digi-Key; Supplier Part Number 2: ADP5034ACPZ-1-R7CT-ND; Supplier 3: Digi-Key; Supplier Part Number 3: ADP5034ACPZ-1-R7DKR-ND; Supplier 4: Farnell; Supplier Part Number 4: 2008780; Supplier 5: Newark; Supplier Part Number 5: 58T8880; Supplier 6: Newark; Supplier Part Number 6: 59T9897; Supplier 7: Mouser; Supplier Part Number 7: 584-ADP5034ACPZ-1-R7; Packing: Reel; Vout Preset (V): 1.2;1.8;2.8;3.3; Mounting Technology: Surface Mount; Code_JEDEC: MO-220-WGGD-8; ComponentLink1Description: Manufacturer URL; ComponentLink1URL: http://www.analog.com/en/index.html; ComponentLink2Description: Datasheet; ComponentLink2URL: http://www.analog.com/static/imported-files/data_sheets/ADP5034.pdf; ComponentLink3Description: Package Specification; ComponentLink3URL: http://www.analog.com/static/imported-files/packages/PKG_PDF/LFCSP(CP)/CP_24_10.pdf; ComponentLink4Description: URL Link1; ComponentLink4URL: Product URL:http://www.analog.com/en/ADP5034/productSearch.html
footprint ADI-CP-24-10_N (QFN, 24-Leads, Body 4x4mm, Pitch 0.5mm, Thermal Pad 2.1x2.1mm, IPC Medium Density)
footprint ADI-CP-24-10_L (QFN, 24-Leads, Body 4x4mm, Pitch 0.5mm, Thermal Pad 2.1x2.1mm, IPC High Density)
footprint ADI-CP-24-10_M (QFN, 24-Leads, Body 4x4mm, Pitch 0.5mm, Thermal Pad 2.1x2.1mm, IPC Low Density)
pins: 1 FB4 (in) "LDO2 Feedback Input. For device models with a adjustable output voltage, connect this pin to the middle of the LDO2 resistor divider. For device models with a factory programmed output voltage, connect FB4 to the top of the (See Datasheet)", 2 EN4 (in) "LDO2 Enable Pin. High level turns on this regulator, and low level turns it off.", 3 VIN2 (power) "BUCK2 Input Supply (2.3 V to 5.5 V). Connect VIN2 to VIN1 and AVIN.", 4 SW2 (power) "BUCK2 Switching Node.", 5 PGND2 (power) "Dedicated Power Ground for BUCK2.", 6 NC "No Connect. Leave this pin unconnected.", 7 EN2 (in) "BUCK2 Enable Pin. High level turns on this regulator, and low level turns it off.", 8 FB2 (in) "BUCK2 Feedback Input. For device models with an adjustable output voltage, connect this pin to the middle of the BUCK2 resistor divider. For device models with a fixed output voltage, leave this pin unconnected.", 9 VOUT2 "BUCK2 Output Voltage Sensing Input. Connect VOUT2 to the top of the capacitor on VOUT2.", 10 VOUT1 "BUCK1 Output Voltage Sensing Input. Connect VOUT1 to the top of the capacitor on VOUT1.", 11 FB1 (in) "BUCK1 Feedback Input. For device models with an adjustable output voltage, connect this pin to the middle of the BUCK1 resistor divider. For device models with a fixed output voltage, leave this pin unconnected.", 12 EN1 (in) "BUCK1 Enable Pin. High level turns on this regulator, and low level turns it off.", 13 MODE (in) "BUCK1/BUCK2 Operating Mode. MODE = high: forced PWM operation. MODE = low: auto PWM/PSM operation.", 14 PGND1 (power) "Dedicated Power Ground for BUCK1.", 15 SW1 (power) "BUCK1 Switching Node.", 16 VIN1 (power) "BUCK1 Input Supply (2.3 V to 5.5 V). Connect VIN1 to VIN2 and AVIN.", 17 AVIN (power) "Analog Input Supply (2.3 V to 5.5 V). Connect AVIN to VIN1 and VIN2.", 18 AGND (power) "Analog Ground.", 19 FB3 (in) "LDO1 Feedback Input. For device models with an adjustable output voltage, connect this pin to the middle of the LDO1 resistor divider. For device models with a factory programmed output voltage, connect FB3 to the top of the (See Datasheet)", 20 VOUT3 (power) "LDO1 Output Voltage.", 21 VIN3 (power) "LDO1 Input Supply (1.7 V to 5.5 V).", 22 EN3 (in) "LDO1 Enable Pin. High level turns on this regulator, and low level turns it off.", 23 VIN4 (power) "LDO2 Input Supply (1.7 V to 5.5 V).", 24 VOUT4 (power) "LDO2 Output Voltage.", 25 EP (power) "Exposed Pad. It is recommended that the exposed pad be soldered to the ground plane."